# Altium footprint library interface_PcbLib.PcbLib: 36 footprints (part 1 of 3)
Each footprint in its own frame and in the unit in brackets; x right, y up, seen from the top. Pads: shape width x height; smd on the part's side, far side on the other; paste and mask are expansions set on the pad; w line width, h text height; cw(c..) or ccw(c..) is an arc to the next point about the centre after c.
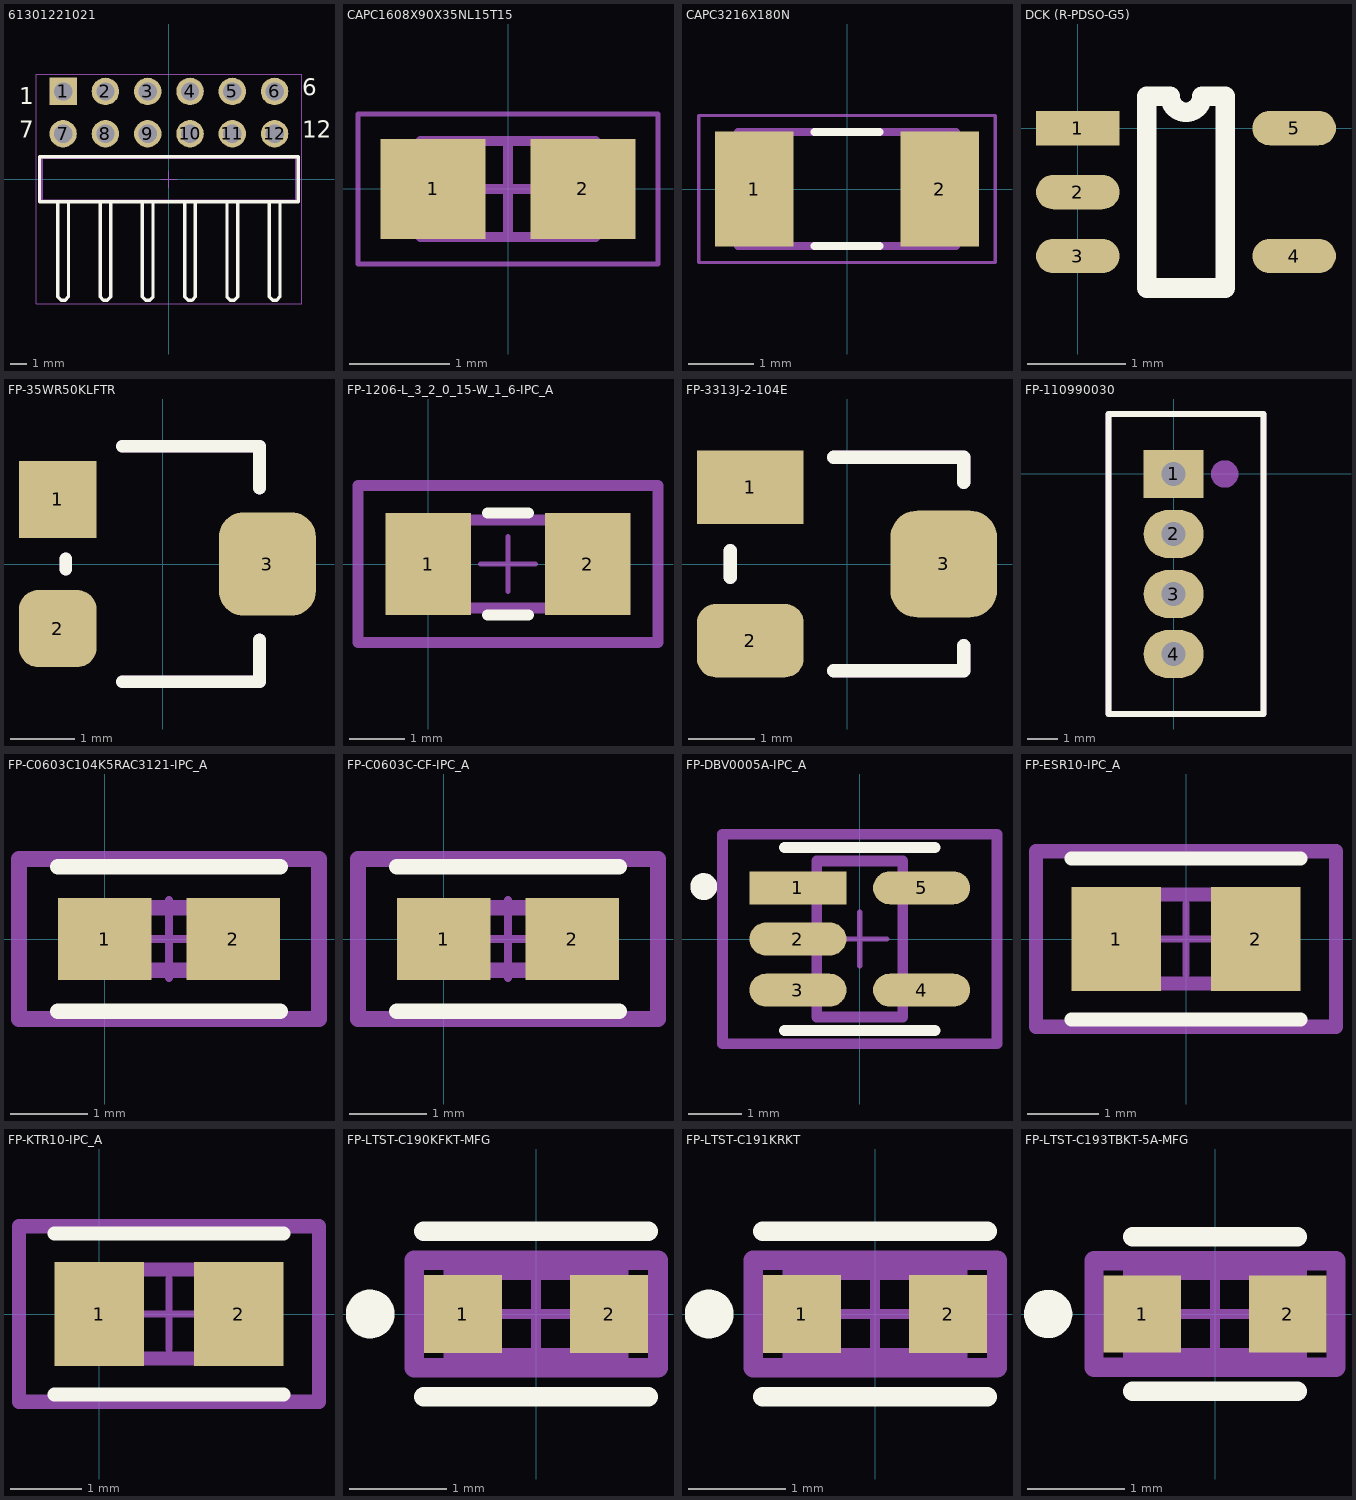
[diagram p0: the footprints below, top view; thin cyan lines are the x and y axes]

## 61301221021 [mm] "Pin Header, pitch 2.54 mm, THT, Angled, dual row, 12p"
height 5.08
pads (12):
  rect 1.65x1.65 hole 1.1: 1(-6.35,5.27)
  round 1.65 hole 1.1: 2(-3.81,5.27) 3(-1.27,5.27) 4(1.27,5.27) 5(3.81,5.27) 6(6.35,5.27) 7(-6.35,2.73) 8(-3.81,2.73) 9(-1.27,2.73) 10(1.27,2.73) 11(3.81,2.73) 12(6.35,2.73)
Top Overlay:
  lines w0.2: -6.67,-1.345 -6.67,-7.07 -6.47,-7.27 -6.23,-7.27 -6.03,-7.07 -6.03,-1.345 ; -4.13,-1.345 -4.13,-7.07 -3.93,-7.27 -3.69,-7.27 -3.49,-7.07 -3.49,-1.345 ; -1.59,-1.345 -1.59,-7.07 -1.39,-7.27 -1.15,-7.27 -0.95,-7.07 -0.95,-1.345 ; 0.95,-1.345 0.95,-7.07 1.15,-7.27 1.39,-7.27 1.59,-7.07 1.59,-1.345 ; 3.49,-1.345 3.49,-7.07 3.69,-7.27 3.93,-7.27 4.13,-7.07 4.13,-1.345 ; 6.03,-1.345 6.03,-7.07 6.23,-7.27 6.47,-7.27 6.67,-7.07 6.67,-1.345 ; -7.77,-1.345 -7.77,1.345 7.77,1.345 7.77,-1.345 -7.77,-1.345
  text "1" at -9,4.5 h1.02
  text "12" at 8,2.5 h1.02
  text "6" at 8,5 h1.02
  text "7" at -9,2.5 h1.02
Mechanical 13:
  lines w0.1: -6.67,-1.27 -6.67,-7.07 -6.47,-7.27 -6.23,-7.27 -6.03,-7.07 -6.03,-1.27 ; -4.13,-1.27 -4.13,-7.07 -3.93,-7.27 -3.69,-7.27 -3.49,-7.07 -3.49,-1.27 ; -1.59,-1.27 -1.59,-7.07 -1.39,-7.27 -1.15,-7.27 -0.95,-7.07 -0.95,-1.27 ; 0.95,-1.27 0.95,-7.07 1.15,-7.27 1.39,-7.27 1.59,-7.07 1.59,-1.27 ; 3.49,-1.27 3.49,-7.07 3.69,-7.27 3.93,-7.27 4.13,-7.07 4.13,-1.27 ; 6.03,-1.27 6.03,-7.07 6.23,-7.27 6.47,-7.27 6.67,-7.07 6.67,-1.27 ; -7.62,-1.27 7.62,-1.27 7.62,1.27 -7.62,1.27 -7.62,-1.27
Mechanical 15:
  lines w0.05: -0.5,0 0.5,0 ; 0,-0.5 0,0.5 ; -7.97,-7.47 -7.97,6.295 7.97,6.295 7.97,-7.47 -7.97,-7.47
3D body "61301221021.stp": height 5.12, standoff -2.96, extent -7.62,-7.27 7.62,5.63

## CAPC1608X90X35NL15T15 [mm] "Chip Capacitor, 2-Leads, Body 1.60x0.81mm, IPC Medium Density"
height 0.9
pads (2):
  rect 1.05x1 smd: 1(-0.75,0) 2(0.75,0)
Mechanical 13:
  lines w0.1: -0.875,-0.48 0.875,-0.48 0.875,0.48 -0.875,0.48 -0.875,-0.48
Mechanical 15:
  lines w0.05: -1.5,-0.75 1.5,-0.75 1.5,0.75 -1.5,0.75 -1.5,-0.75
  lines w0.1: -0.48,0 0.48,0 ; 0,-0.48 0,0.48
3D body: height 0.9, standoff 0, extent 0.525,-0.48 0.875,0.48
3D body: height 0.9, standoff 0, extent -0.875,-0.48 -0.525,0.48
3D body: height 0.9, standoff 0, extent -0.525,-0.48 0.525,0.48

## CAPC3216X180N [mm]
pads (2):
  rect 1.21x1.77 smd: 1(-1.428,0) 2(1.428,0)
Top Overlay:
  lines w0.127: -0.5,-0.88 0.5,-0.88 ; -0.5,0.88 0.5,0.88
Mechanical 13:
  lines w0.127: -1.68,-0.88 -1.68,0.88 1.68,0.88 1.68,-0.88 -1.68,-0.88
Mechanical 15:
  lines w0.05: -2.285,-1.135 -2.285,1.135 2.285,1.135 2.285,-1.135 -2.285,-1.135
3D body "EMK316BJ226KL-T.STEP": height 1.61, standoff 0.01, extent -1.6,-0.9 1.6,0.9

## DCK (R-PDSO-G5) [mm]
pads (5):
  rect 0.85x0.35 smd: 1(0,0)
  oval 0.85x0.35 smd: 2(0,-0.65) 3(0,-1.3) 4(2.2,-1.3) 5(2.2,0)
Top Overlay:
  lines w0.2: 0.7,-1.625 1.5,-1.625 1.5,0.325 1.262,0.325 cw(c1.1,0.325) 0.938,0.325 0.7,0.325 0.7,-1.625

## FP-35WR50KLFTR [mm]
pads (3):
  rect 1.2x1.2 smd: 1(-1.625,1)
  rrect50% 1.2x1.2 smd: 2(-1.625,-1)
  rrect50% 1.5x1.6 smd: 3(1.625,0)
Top Overlay:
  lines w0.2: -1.5,-0.075 -1.5,0 -1.5,0.075 ; -0.625,-1.825 1.5,-1.825 1.5,-1.175 ; -0.625,1.825 1.5,1.825 1.5,1.175
Top Assembly:
  lines w0.2: -1.5,-0.075 -1.5,0 -1.5,0.075 ; -0.625,-1.825 1.5,-1.825 1.5,-1.175 ; -0.625,1.825 1.5,1.825 1.5,1.175
  text "'.Designator'" at 0.292,-3.965 h0.7

## FP-1206-L_3_2_0_15-W_1_6-IPC_A [mm]
pads (2):
  rect 1.555x1.858 smd paste+0 mask+0: 1(0,0) 2(2.903,0)
Top Overlay:
  lines w0.2: 1.078,-0.929 1.825,-0.929 ; 1.078,0.929 1.825,0.929
Mechanical 5:
  lines w0.2: -1.278,-1.429 -1.278,1.429 4.18,1.429 4.18,-1.429 -1.278,-1.429
  text ".Designator" at 1.451,0.188 h1
Mechanical 13:
  lines w0.2: -0.149,-0.8 -0.149,0.8 3.051,0.8 3.051,-0.8 -0.149,-0.8
Mechanical 15:
  lines w0.2: -1.278,-1.429 -1.278,1.429 4.18,1.429 4.18,-1.429 -1.278,-1.429
Mechanical 16:
  lines w0.1: 0.951,0 1.951,0 ; 1.451,-0.5 1.451,0.5
3D body "Cap_Taiyo_Yuden_TMF316B7104KLHT_eec.STEP": height 0.25, standoff 0, extent -1.278,-1.429 4.18,1.429

## FP-3313J-2-104E [mm]
pads (3):
  rect 1.6x1.1 smd: 1(-1.45,1.15)
  rrect50% 1.6x1.1 smd: 2(-1.45,-1.15)
  rrect50% 1.6x1.6 smd: 3(1.45,0)
Top Overlay:
  lines w0.2: -1.75,-0.2 -1.75,0 -1.75,0.2 ; -0.2,-1.6 1.75,-1.6 ; -0.2,1.6 1.75,1.6 ; 1.75,-1.6 1.75,-1.225 1.75,-1.6 ; 1.75,1.6 1.75,1.225 1.75,1.6
Top Assembly:
  lines w0.2: -1.75,-0.2 -1.75,0 -1.75,0.2 ; -0.2,-1.6 1.75,-1.6 ; -0.2,1.6 1.75,1.6 ; 1.75,-1.6 1.75,-1.225 1.75,-1.6 ; 1.75,1.6 1.75,1.225 1.75,1.6
  text "'.Designator'" at 0.467,-3.815 h0.7

## FP-110990030 [mm]
pads (4):
  rect 2x1.6 hole 0.8: 1(0,0)
  oval 2x1.6 hole 0.8: 2(0,-2) 3(0,-4) 4(0,-6)
Top Overlay:
  lines w0.2: -2.175,-8 3,-8 3,2 -2.175,2 -2.175,-8
Top Assembly:
  circle w0.508: c1.7,0 r0.203
  lines w0.2: -2.175,-8 3,-8 3,2 -2.175,2 -2.175,-8
  text "'.Designator'" at 0.292,-6.965 h0.7
3D body "110990030--3DModel-STEP-56544.STEP": height 8.11, standoff -3.49, extent -2.15,-8 2.95,2

## FP-C0603C104K5RAC3121-IPC_A [mil]
pads (2):
  rect 47.5x41.66 smd paste+0 mask+0: 1(0,0) 2(65.03,0)
Top Overlay:
  lines w7.87: -23.75,-36.58 88.78,-36.58 ; -23.75,36.58 88.78,36.58
Mechanical 5:
  lines w7.87: -43.44,-40.52 -43.44,40.52 108.46,40.52 108.46,-40.52 -43.44,-40.52
  text ".Designator" at 32.51,7.39 h39.37
Mechanical 13:
  lines w7.87: 1.02,-15.75 1.02,15.75 64.01,15.75 64.01,-15.75 1.02,-15.75
Mechanical 15:
  lines w7.87: -43.44,-40.52 -43.44,40.52 108.46,40.52 108.46,-40.52 -43.44,-40.52
Mechanical 16:
  lines w3.94: 12.83,0 52.2,0 ; 32.51,-19.68 32.51,19.68
3D body "Cap_KEMET_C0603C104K5RAC3121_eec.STEP": height 10, standoff 0, extent -43.44,-40.52 108.46,40.52

## FP-C0603C-CF-IPC_A [mil]
pads (2):
  rect 47.5x41.66 smd paste+0 mask+0: 1(0,0) 2(65.03,0)
Top Overlay:
  lines w7.87: -23.75,-36.58 88.78,-36.58 ; -23.75,36.58 88.78,36.58
Mechanical 5:
  lines w7.87: -43.44,-40.52 108.46,-40.52 108.46,40.52 -43.44,40.52 -43.44,-40.52
  text ".Designator" at 32.51,7.39 h39.37
Mechanical 13:
  lines w7.87: 1.02,-15.75 64.01,-15.75 64.01,15.75 1.02,15.75 1.02,-15.75
Mechanical 15:
  lines w7.87: -43.44,-40.52 108.46,-40.52 108.46,40.52 -43.44,40.52 -43.44,-40.52
Mechanical 16:
  lines w3.94: 12.83,0 52.2,0 ; 32.51,-19.68 32.51,19.68
3D body "Cap_KEMET_C0603C272M5JACTU_eec.STEP": height 10, standoff 0, extent -43.44,-40.52 108.46,40.52

## FP-DBV0005A-IPC_A [mm]
pads (5):
  rect 1.805x0.612 smd paste+0 mask+0: 1(-1.15,0.95)
  rrect100% 1.805x0.612 smd paste+0 mask+0: 2(-1.15,0) 3(-1.15,-0.95) 4(1.15,-0.95) 5(1.15,0.95)
Top Overlay:
  circle w0.25: c-2.903,0.975 r0.125
  lines w0.2: -1.4,-1.7 1.4,-1.7 ; -1.4,1.7 1.4,1.7
Mechanical 5:
  lines w0.2: -2.553,-1.95 2.553,-1.95 2.553,1.95 -2.553,1.95 -2.553,-1.95
  text ".Designator" at 0,-0.001 h1
Mechanical 13:
  lines w0.2: -0.8,-1.45 0.8,-1.45 0.8,1.45 -0.8,1.45 -0.8,-1.45
Mechanical 15:
  lines w0.2: -2.553,-1.95 2.553,-1.95 2.553,1.95 -2.553,1.95 -2.553,-1.95
Mechanical 16:
  lines w0.1: -0.5,0 0.5,0 ; 0,-0.5 0,0.5
3D body "IC_Texas_Instruments_SN74AHC1G00DBVR_eec.STEP": height 0.25, standoff 0, extent -2.553,-1.95 2.553,1.95

## FP-ESR10-IPC_A [mm]
pads (2):
  rect 1.258x1.462 smd paste+0 mask+0: 1(-0.977,0) 2(0.977,0)
Top Overlay:
  lines w0.2: -1.606,-1.131 1.606,-1.131 ; -1.606,1.131 1.606,1.131
Mechanical 5:
  lines w0.2: -2.106,-1.231 2.106,-1.231 2.106,1.231 -2.106,1.231 -2.106,-1.231
  text ".Designator" at 0,0.188 h1
Mechanical 13:
  lines w0.2: -1,-0.625 1,-0.625 1,0.625 -1,0.625 -1,-0.625
Mechanical 15:
  lines w0.2: -2.106,-1.231 2.106,-1.231 2.106,1.231 -2.106,1.231 -2.106,-1.231
Mechanical 16:
  lines w0.1: -0.5,0 0.5,0 ; 0,-0.5 0,0.5
3D body "Res_Rohm_ESR10EZPF49R9_eec.STEP": height 0.25, standoff 0, extent -2.106,-1.231 2.106,1.231

## FP-KTR10-IPC_A [mm]
pads (2):
  rect 1.258x1.462 smd paste+0 mask+0: 1(0,0) 2(1.954,0)
Top Overlay:
  lines w0.2: -0.629,-1.131 2.583,-1.131 ; -0.629,1.131 2.583,1.131
Mechanical 5:
  lines w0.2: -1.129,-1.231 3.083,-1.231 3.083,1.231 -1.129,1.231 -1.129,-1.231
  text ".Designator" at 0.977,0.188 h1
Mechanical 13:
  lines w0.2: -0.023,-0.625 1.977,-0.625 1.977,0.625 -0.023,0.625 -0.023,-0.625
Mechanical 15:
  lines w0.2: -1.129,-1.231 3.083,-1.231 3.083,1.231 -1.129,1.231 -1.129,-1.231
Mechanical 16:
  lines w0.1: 0.477,0 1.477,0 ; 0.977,-0.5 0.977,0.5
3D body "Res_Rohm_KTR10EZPJ151_eec.STEP": height 0.25, standoff 0, extent -1.129,-1.231 3.083,1.231

## FP-LTST-C190KFKT-MFG [mm]
pads (2):
  rect 0.8x0.8 smd paste+0 mask+0: 1(-0.75,0) 2(0.75,0)
Top Overlay:
  circle w0.25: c-1.7,0 r0.125
  lines w0.2: -1.15,-0.85 1.15,-0.85 ; -1.15,0.85 1.15,0.85
Mechanical 5:
  lines w0.2: -1.25,-0.55 1.25,-0.55 1.25,0.55 -1.25,0.55 -1.25,-0.55
  text ".Designator" at 0,-0.001 h1
Mechanical 13:
  lines w0.2: -0.85,-0.45 0.85,-0.45 0.85,0.45 -0.85,0.45 -0.85,-0.45
Mechanical 15:
  lines w0.2: -1.25,-0.55 1.25,-0.55 1.25,0.55 -1.25,0.55 -1.25,-0.55
Mechanical 16:
  lines w0.1: -0.5,0 0.5,0 ; 0,-0.5 0,0.5
3D body "Diode_Lite-On_LTST-C190KFKT_eec.STEP": height 0.25, standoff 0, extent -1.25,-0.55 1.25,0.55

## FP-LTST-C191KRKT [mm]
pads (2):
  rect 0.8x0.8 smd paste+0 mask+0: 1(-0.75,0) 2(0.75,0)
Top Overlay:
  circle w0.25: c-1.7,0 r0.125
  lines w0.2: -1.15,-0.85 1.15,-0.85 ; -1.15,0.85 1.15,0.85
Mechanical 5:
  lines w0.2: -1.25,-0.55 -1.25,0.55 1.25,0.55 1.25,-0.55 -1.25,-0.55
  text ".Designator" at 0,-0.001 h1
Mechanical 13:
  lines w0.2: -0.85,-0.45 -0.85,0.45 0.85,0.45 0.85,-0.45 -0.85,-0.45
Mechanical 15:
  lines w0.2: -1.25,-0.55 -1.25,0.55 1.25,0.55 1.25,-0.55 -1.25,-0.55
Mechanical 16:
  lines w0.1: -0.5,0 0.5,0 ; 0,-0.5 0,0.5
3D body "LTST-C191KRKT.STEP": height 0.81, standoff 0.01, extent -0.8,-0.4 0.8,0.4

## FP-LTST-C193TBKT-5A-MFG [mm]
pads (2):
  rect 0.8x0.8 smd paste+0 mask+0: 1(-0.75,0) 2(0.75,0)
Top Overlay:
  circle w0.25: c-1.725,0 r0.125
  lines w0.2: -0.85,-0.8 0.85,-0.8 ; -0.85,0.8 0.85,0.8
Mechanical 5:
  lines w0.2: -1.25,-0.55 -1.25,0.55 1.25,0.55 1.25,-0.55 -1.25,-0.55
  text ".Designator" at 0,-0.001 h1
Mechanical 13:
  lines w0.2: -0.85,-0.45 -0.85,0.45 0.85,0.45 0.85,-0.45 -0.85,-0.45
Mechanical 15:
  lines w0.2: -1.25,-0.55 -1.25,0.55 1.25,0.55 1.25,-0.55 -1.25,-0.55
Mechanical 16:
  lines w0.1: -0.5,0 0.5,0 ; 0,-0.5 0,0.5
3D body "Diode_Lite-On_LTST-C193TBKT-5A_eec.STEP": height 0.25, standoff 0, extent -1.25,-0.55 1.25,0.55